# Altium footprint library Optoelectronics.PcbLib: 3 footprints
Each footprint in its own frame and in the unit in brackets; x right, y up, seen from the top. Pads: shape width x height; smd on the part's side, far side on the other; paste and mask are expansions set on the pad; w line width, h text height; cw(c..) or ccw(c..) is an arc to the next point about the centre after c.
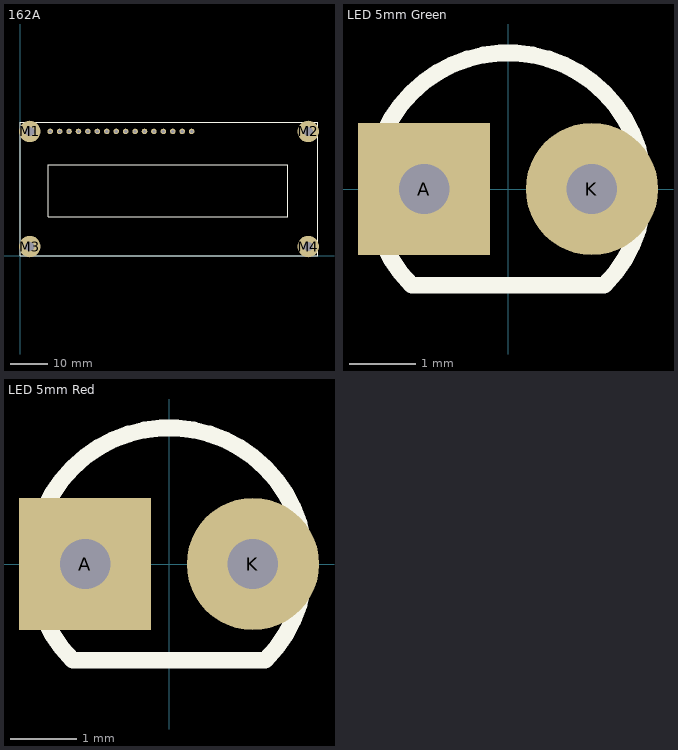
[diagram p0: the footprints below, top view; thin cyan lines are the x and y axes]

## 162A [mm]
pads (20):
  round 1.5 hole 0.9: 1(8.001,33.503) 2(10.541,33.503) 3(13.081,33.503) 4(15.621,33.503) 5(18.161,33.503) 6(20.701,33.503) 7(23.241,33.503) 8(25.781,33.503) 9(28.321,33.503) 10(30.861,33.503) 11(33.401,33.503) 12(35.941,33.503) 13(38.481,33.503) 14(41.021,33.503) 15(43.561,33.503) 16(46.101,33.503)
  round 5.8 / inner round 0 / far side round 0 hole 2.5 unplated: M1(2.501,33.503) M2(77.501,33.503) M3(2.501,2.503) M4(77.501,2.503)
Top Overlay:
  lines w0.2: 0.001,0.003 0.001,36.003 80.001,36.003 80.001,0.003 0.001,0.003 ; 7.501,10.503 7.501,24.503 72.001,24.503 72.001,10.503 7.501,10.503

## LED 5mm Green [mm] "красный\матовый"
height 10
pads (2):
  rect 2x2 hole 0.762: A(-1.27,0)
  round 2 hole 0.762: K(1.27,0)
Top Overlay:
  lines w0.254: -1.458,-1.458 cw(c0,0) 1.458,-1.458 -1.458,-1.458
3D body "CircuitWorks-GREENLED.step": height 5.88, standoff -2.68, extent -1.992,-1.498 1.992,1.994

## LED 5mm Red [mm] "красный\матовый"
height 10
pads (2):
  rect 2x2 hole 0.762: A(-1.27,0)
  round 2 hole 0.762: K(1.27,0)
Top Overlay:
  lines w0.254: -1.458,-1.458 cw(c0,0) 1.458,-1.458 -1.458,-1.458
3D body "CircuitWorks-REDLED.step": height 5.88, standoff -2.68, extent -1.992,-1.498 1.992,1.994